# Altium footprint library Intelligent-Lighting-MasterPCBlib.PcbLib: 50 footprints (part 1 of 4)
Each footprint in its own frame and in the unit in brackets; x right, y up, seen from the top. Pads: shape width x height; smd on the part's side, far side on the other; paste and mask are expansions set on the pad; w line width, h text height; cw(c..) or ccw(c..) is an arc to the next point about the centre after c.
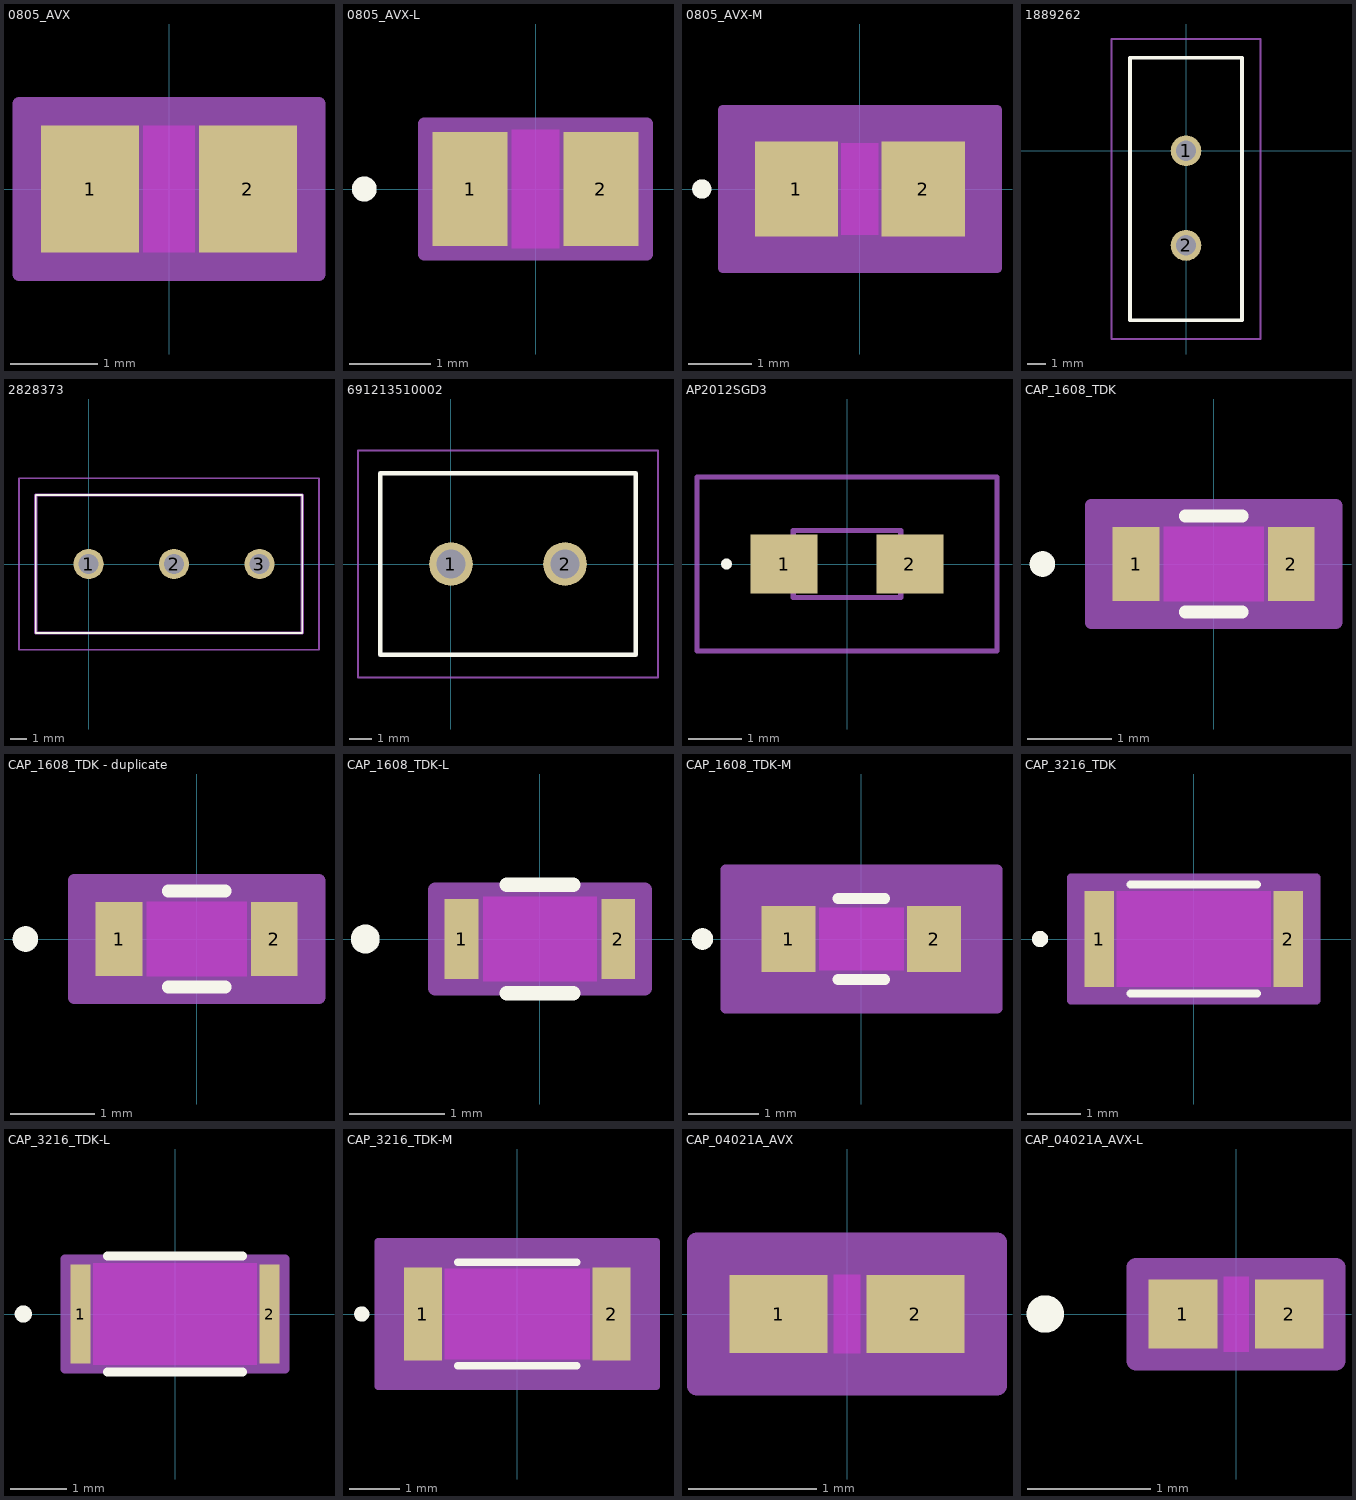
[diagram p0: the footprints below, top view; thin cyan lines are the x and y axes]

## 0805_AVX [mil]
pads (2):
  rect 44x57 smd paste+0 mask+0: 1(-35.5,0) 2(35.5,0)
Top Layer keep-out:
  region: -11.5,-26.5 -11.5,26.5 11.5,26.5 11.5,-26.5
Keep-Out Layer:
  region: -11.5,-28.5 -11.5,28.5 11.5,28.5 11.5,-28.5
Mechanical 13:
  lines w1: -43.5,-28.5 -43.5,28.5 ; -43.5,-28.5 -13.5,-28.5 -13.5,28.5 -43.5,28.5 ; -43.5,-28.5 43.5,-28.5 ; -43.5,-28.5 -43.5,28.5 ; -43.5,28.5 43.5,28.5 ; 43.5,-28.5 13.5,-28.5 13.5,28.5 43.5,28.5 ; 43.5,-28.5 43.5,28.5 ; 43.5,-28.5 43.5,28.5
Mechanical 15:
  region: 67.5,-38.5 -67.5,-38.5 -67.5,38.5 67.5,38.5
  lines w6: -67.5,-38.5 -67.5,38.5 67.5,38.5 67.5,-38.5 -67.5,-38.5
3D body "0805_AVX.step": height 37.01, standoff 0, extent -43.5,-28.5 43.5,28.5

## 0805_AVX-L [mil]
pads (2):
  rect 36x55 smd paste+0 mask+0: 1(-31.5,0) 2(31.5,0)
Top Layer keep-out:
  region: -11.5,-26.5 -11.5,26.5 11.5,26.5 11.5,-26.5
Top Overlay:
  circle w6: c-82.5,0 r3
Keep-Out Layer:
  region: -11.5,-28.5 -11.5,28.5 11.5,28.5 11.5,-28.5
Mechanical 13:
  circle w0: c-26.5,0 r3
  lines w1: -43.5,-28.5 -43.5,28.5 ; -43.5,-28.5 43.5,-28.5 ; -43.5,-28.5 -13.5,-28.5 -13.5,28.5 -43.5,28.5 ; -43.5,-28.5 -43.5,28.5 ; -43.5,28.5 43.5,28.5 ; 43.5,-28.5 43.5,28.5 ; 43.5,-28.5 43.5,28.5 ; 43.5,-28.5 13.5,-28.5 13.5,28.5 43.5,28.5
Mechanical 15:
  region: 53.5,-31.5 -53.5,-31.5 -53.5,31.5 53.5,31.5
  lines w6: -53.5,-31.5 53.5,-31.5 53.5,31.5 -53.5,31.5 -53.5,-31.5
3D body "0805_AVX.step": height 37.01, standoff 0, extent -43.5,-28.5 43.5,28.5

## 0805_AVX-M [mil]
pads (2):
  rect 52x59 smd paste+0 mask+0: 1(-39.5,0) 2(39.5,0)
Top Layer keep-out:
  region: -11.5,-26.5 -11.5,26.5 11.5,26.5 11.5,-26.5
Top Overlay:
  circle w6: c-98.5,0 r3
Keep-Out Layer:
  region: -11.5,-28.5 -11.5,28.5 11.5,28.5 11.5,-28.5
Mechanical 13:
  circle w0: c-34.5,0 r3
  lines w1: -43.5,-28.5 -43.5,28.5 ; -43.5,-28.5 -13.5,-28.5 -13.5,28.5 -43.5,28.5 ; -43.5,-28.5 43.5,-28.5 ; -43.5,-28.5 -43.5,28.5 ; -43.5,28.5 43.5,28.5 ; 43.5,-28.5 13.5,-28.5 13.5,28.5 43.5,28.5 ; 43.5,-28.5 43.5,28.5 ; 43.5,-28.5 43.5,28.5
Mechanical 15:
  region: 85.5,-49.5 -85.5,-49.5 -85.5,49.5 85.5,49.5
  lines w6: -85.5,-49.5 -85.5,49.5 85.5,49.5 85.5,-49.5 -85.5,-49.5
3D body "0805_AVX.step": height 37.01, standoff 0, extent -43.5,-28.5 43.5,28.5

## 1889262 [mm]
pads (2):
  round 1.65 hole 1.1: 1(0,0) 2(0,-5.08)
Top Overlay:
  lines w0.2: -3,-9.1 -3,5 3,5 3,-9.1 -3,-9.1
Mechanical 13:
  lines w0.1: -3,-9.1 -3,5 3,5 3,-9.1 -3,-9.1
Mechanical 15:
  lines w0.1: -4,-10.1 -4,6 4,6 4,-10.1 -4,-10.1
3D body "1889262.stp": height 12.79, standoff -3.46, extent -3.4,-9.057 3,5.04

## 2828373 [mm]
pads (3):
  round 1.8 hole 1.2: 1(0,0) 2(5.08,0) 3(10.16,0)
Top Overlay:
  lines w0.1: -3.14,-4.1 12.7,-4.1 12.7,4.1 -3.14,4.1 -3.14,-4.1
Mechanical 13:
  lines w0.2: -3.14,-4.1 12.7,-4.1 12.7,4.1 -3.14,4.1 -3.14,-4.1
Mechanical 15:
  lines w0.1: -4.14,-5.1 13.7,-5.1 13.7,5.1 -4.14,5.1 -4.14,-5.1
3D body "282837-3.stp": height 9.97, standoff -3.53, extent -3.14,-4.1 12.7,4.1

## 691213510002 [mm]
pads (2):
  round 1.95 hole 1.3: 1(0,0) 2(5.08,0)
Top Overlay:
  lines w0.2: -3.14,-4.05 8.22,-4.05 8.22,4.05 -3.14,4.05 -3.14,-4.05
Mechanical 13:
  lines w0.1: -3.14,-4.05 8.22,-4.05 8.22,4.05 -3.14,4.05 -3.14,-4.05
Mechanical 15:
  lines w0.1: -4.14,-5.05 9.22,-5.05 9.22,5.05 -4.14,5.05 -4.14,-5.05
3D body "691213510002.stp": height 10.2, standoff -5, extent -3.14,-4.05 8.22,4.05

## AP2012SGD3 [mm]
pads (2):
  rect 1.25x1.1 smd: 1(-1.175,0) 2(1.175,0)
Top Overlay:
  lines w0.1: -2.3,0 ccw(c-2.25,0) -2.2,0 ccw(c-2.25,0) -2.3,0
Mechanical 13:
  lines w0.1: -1,-0.625 -1,0.625 1,0.625 1,-0.625 -1,-0.625
Mechanical 15:
  lines w0.1: -2.8,-1.625 -2.8,1.625 2.8,1.625 2.8,-1.625 -2.8,-1.625
3D body "AP2012SGD3.stp": height 1.2, standoff 0, extent -1,-0.625 1,0.625

## CAP_1608_TDK [mil]
pads (2):
  rect 22x35 smd paste+0 mask+0: 1(-36.5,0) 2(36.5,0)
Top Layer keep-out:
  region: -23.5,-15.5 -23.5,15.5 23.5,15.5 23.5,-15.5
Top Overlay:
  circle w6: c-80.5,0 r3
  lines w6: -13.39,-22.5 13.39,-22.5 ; -13.39,22.5 13.39,22.5
Keep-Out Layer:
  region: -23.5,-17.5 -23.5,17.5 23.5,17.5 23.5,-17.5
Mechanical 13:
  circle w0: c-31.5,0 r3
  lines w1: -33.5,-17.5 -33.5,17.5 ; -33.5,-17.5 -25.5,-17.5 -25.5,17.5 -33.5,17.5 ; -33.5,-17.5 33.5,-17.5 ; -33.5,-17.5 -33.5,17.5 ; -33.5,17.5 33.5,17.5 ; 33.5,-17.5 25.5,-17.5 25.5,17.5 33.5,17.5 ; 33.5,-17.5 33.5,17.5 ; 33.5,-17.5 33.5,17.5
Mechanical 15:
  region: 57.5,-27.5 -57.5,-27.5 -57.5,27.5 57.5,27.5
  lines w6: -57.5,-27.5 -57.5,27.5 57.5,27.5 57.5,-27.5 -57.5,-27.5
3D body "CAP_1608_TDK.step": height 35, standoff 0, extent -33.5,-17.48 33.5,17.48

## CAP_1608_TDK - duplicate [mil]
pads (2):
  rect 22x35 smd paste+0 mask+0: 1(-36.5,0) 2(36.5,0)
Top Layer keep-out:
  region: -23.5,-15.5 -23.5,15.5 23.5,15.5 23.5,-15.5
Top Overlay:
  circle w6: c-80.5,0 r3
  lines w6: -13.39,-22.5 13.39,-22.5 ; -13.39,22.5 13.39,22.5
Keep-Out Layer:
  region: -23.5,-17.5 -23.5,17.5 23.5,17.5 23.5,-17.5
Mechanical 13:
  circle w0: c-31.5,0 r3
  lines w1: -33.5,-17.5 -33.5,17.5 ; -33.5,-17.5 -25.5,-17.5 -25.5,17.5 -33.5,17.5 ; -33.5,-17.5 33.5,-17.5 ; -33.5,-17.5 -33.5,17.5 ; -33.5,17.5 33.5,17.5 ; 33.5,-17.5 25.5,-17.5 25.5,17.5 33.5,17.5 ; 33.5,-17.5 33.5,17.5 ; 33.5,-17.5 33.5,17.5
Mechanical 15:
  region: 57.5,-27.5 -57.5,-27.5 -57.5,27.5 57.5,27.5
  lines w6: -57.5,-27.5 -57.5,27.5 57.5,27.5 57.5,-27.5 -57.5,-27.5
3D body "CAP_1608_TDK.step": height 35, standoff 0, extent -33.5,-17.48 33.5,17.48

## CAP_1608_TDK-L [mil]
pads (2):
  rect 14x33 smd paste+0 mask+0: 1(-32.5,0) 2(32.5,0)
Top Layer keep-out:
  region: -23.5,-15.5 -23.5,15.5 23.5,15.5 23.5,-15.5
Top Overlay:
  circle w6: c-72.5,0 r3
  lines w6: -13.85,-22.5 13.85,-22.5 ; -13.85,22.5 13.85,22.5
Keep-Out Layer:
  region: -23.5,-17.5 -23.5,17.5 23.5,17.5 23.5,-17.5
Mechanical 13:
  circle w0: c-27.5,0 r3
  lines w1: -33.5,-17.5 -33.5,17.5 ; -33.5,-17.5 -25.5,-17.5 -25.5,17.5 -33.5,17.5 ; -33.5,-17.5 33.5,-17.5 ; -33.5,-17.5 -33.5,17.5 ; -33.5,17.5 33.5,17.5 ; 33.5,-17.5 25.5,-17.5 25.5,17.5 33.5,17.5 ; 33.5,-17.5 33.5,17.5 ; 33.5,-17.5 33.5,17.5
Mechanical 15:
  region: 43.5,-20.5 -43.5,-20.5 -43.5,20.5 43.5,20.5
  lines w6: -43.5,-20.5 -43.5,20.5 43.5,20.5 43.5,-20.5 -43.5,-20.5
3D body "CAP_1608_TDK.step": height 35, standoff 0, extent -33.5,-17.48 33.5,17.48

## CAP_1608_TDK-M [mil]
pads (2):
  rect 30x37 smd paste+0 mask+0: 1(-40.5,0) 2(40.5,0)
Top Layer keep-out:
  region: -23.5,-15.5 -23.5,15.5 23.5,15.5 23.5,-15.5
Top Overlay:
  circle w6: c-88.5,0 r3
  lines w6: -13.03,-22.5 13.03,-22.5 ; -13.03,22.5 13.03,22.5
Keep-Out Layer:
  region: -23.5,-17.5 -23.5,17.5 23.5,17.5 23.5,-17.5
Mechanical 13:
  circle w0: c-35.5,0 r3
  lines w1: -33.5,-17.5 -33.5,17.5 ; -33.5,-17.5 33.5,-17.5 ; -33.5,-17.5 -25.5,-17.5 -25.5,17.5 -33.5,17.5 ; -33.5,-17.5 -33.5,17.5 ; -33.5,17.5 33.5,17.5 ; 33.5,-17.5 33.5,17.5 ; 33.5,-17.5 33.5,17.5 ; 33.5,-17.5 25.5,-17.5 25.5,17.5 33.5,17.5
Mechanical 15:
  region: 75.5,-38.5 -75.5,-38.5 -75.5,38.5 75.5,38.5
  lines w6: -75.5,-38.5 75.5,-38.5 75.5,38.5 -75.5,38.5 -75.5,-38.5
3D body "CAP_1608_TDK.step": height 35, standoff 0, extent -33.5,-17.48 33.5,17.48

## CAP_3216_TDK [mil]
pads (2):
  rect 22x71 smd paste+0 mask+0: 1(-70,0) 2(70,0)
Top Layer keep-out:
  region: -57,-33.5 -57,33.5 57,33.5 57,-33.5
Top Overlay:
  circle w6: c-114,0 r3
  lines w6: -46.89,-40.5 46.89,-40.5 ; -46.89,40.5 46.89,40.5
Keep-Out Layer:
  region: -57,-35.5 -57,35.5 57,35.5 57,-35.5
Mechanical 13:
  circle w0: c-65,0 r3
  lines w1: -67,-35.5 -67,35.5 ; -67,-35.5 -59,-35.5 -59,35.5 -67,35.5 ; -67,-35.5 67,-35.5 ; -67,-35.5 -67,35.5 ; -67,35.5 67,35.5 ; 67,-35.5 59,-35.5 59,35.5 67,35.5 ; 67,-35.5 67,35.5 ; 67,-35.5 67,35.5
Mechanical 15:
  region: 91,-45.5 -91,-45.5 -91,45.5 91,45.5
  lines w6: -91,-45.5 -91,45.5 91,45.5 91,-45.5 -91,-45.5
3D body "CAP_3216_TDK.step": height 49.02, standoff 0, extent -67.01,-35.51 67.01,35.51

## CAP_3216_TDK-L [mil]
pads (2):
  rect 14x69 smd paste+0 mask+0: 1(-66,0) 2(66,0)
Top Layer keep-out:
  region: -57,-33.5 -57,33.5 57,33.5 57,-33.5
Top Overlay:
  circle w6: c-106,0 r3
  lines w6: -47.35,-40.5 47.35,-40.5 ; -47.35,40.5 47.35,40.5
Keep-Out Layer:
  region: -57,-35.5 -57,35.5 57,35.5 57,-35.5
Mechanical 13:
  circle w0: c-61,0 r3
  lines w1: -67,-35.5 -67,35.5 ; -67,-35.5 67,-35.5 ; -67,-35.5 -59,-35.5 -59,35.5 -67,35.5 ; -67,-35.5 -67,35.5 ; -67,35.5 67,35.5 ; 67,-35.5 67,35.5 ; 67,-35.5 67,35.5 ; 67,-35.5 59,-35.5 59,35.5 67,35.5
Mechanical 15:
  region: 77,-38.5 -77,-38.5 -77,38.5 77,38.5
  lines w6: -77,-38.5 77,-38.5 77,38.5 -77,38.5 -77,-38.5
3D body "CAP_3216_TDK.step": height 49.02, standoff 0, extent -67.01,-35.51 67.01,35.51

## CAP_3216_TDK-M [mil]
pads (2):
  rect 30x73 smd paste+0 mask+0: 1(-74,0) 2(74,0)
Top Layer keep-out:
  region: -57,-33.5 -57,33.5 57,33.5 57,-33.5
Top Overlay:
  circle w6: c-122,0 r3
  lines w6: -46.53,-40.5 46.53,-40.5 ; -46.53,40.5 46.53,40.5
Keep-Out Layer:
  region: -57,-35.5 -57,35.5 57,35.5 57,-35.5
Mechanical 13:
  circle w0: c-69,0 r3
  lines w1: -67,-35.5 -67,35.5 ; -67,-35.5 67,-35.5 ; -67,-35.5 -59,-35.5 -59,35.5 -67,35.5 ; -67,-35.5 -67,35.5 ; -67,35.5 67,35.5 ; 67,-35.5 67,35.5 ; 67,-35.5 67,35.5 ; 67,-35.5 59,-35.5 59,35.5 67,35.5
Mechanical 15:
  region: 109,-56.5 -109,-56.5 -109,56.5 109,56.5
  lines w6: -109,-56.5 109,-56.5 109,56.5 -109,56.5 -109,-56.5
3D body "CAP_3216_TDK.step": height 49.02, standoff 0, extent -67.01,-35.51 67.01,35.51

## CAP_04021A_AVX [mil]
pads (2):
  rect 30x24 smd paste+0 mask+0: 1(-21,0) 2(21,0)
Top Layer keep-out:
  region: -4,-10 -4,10 4,10 4,-10
Keep-Out Layer:
  region: -4,-12 -4,12 4,12 4,-12
Mechanical 13:
  lines w1: -22,-12 -22,12 ; -22,-12 22,-12 ; -22,-12 -6,-12 -6,12 -22,12 ; -22,-12 -22,12 ; -22,12 22,12 ; 22,-12 22,12 ; 22,-12 22,12 ; 22,-12 6,-12 6,12 22,12
Mechanical 15:
  region: 46,-22 -46,-22 -46,22 46,22
  lines w6: -46,-22 46,-22 46,22 -46,22 -46,-22
3D body "CAP_04021A_AVX.step": height 22.01, standoff 0, extent -22.01,-12.01 22.01,12.01

## CAP_04021A_AVX-L [mil]
pads (2):
  rect 22x22 smd paste+0 mask+0: 1(-17,0) 2(17,0)
Top Layer keep-out:
  region: -4,-10 -4,10 4,10 4,-10
Top Overlay:
  circle w6: c-61,0 r3
Keep-Out Layer:
  region: -4,-12 -4,12 4,12 4,-12
Mechanical 13:
  circle w0: c-12,0 r3
  lines w1: -22,-12 -22,12 ; -22,-12 22,-12 ; -22,-12 -6,-12 -6,12 -22,12 ; -22,-12 -22,12 ; -22,12 22,12 ; 22,-12 22,12 ; 22,-12 22,12 ; 22,-12 6,-12 6,12 22,12
Mechanical 15:
  region: 32,-15 -32,-15 -32,15 32,15
  lines w6: -32,-15 32,-15 32,15 -32,15 -32,-15
3D body "CAP_04021A_AVX.step": height 22.01, standoff 0, extent -22.01,-12.01 22.01,12.01